# EAGLE library part ZX62R-B-5P (library USBMicro)
Conn Micro USB 2.0 Type B RCP 5 POS 0.65mm Solder RA SMD 5 Terminal 1 Port Embossed T/R Check prices <https://pricing.snapeda.com/parts/ZX62R-B-5P/Hirose/view-part?ref=eda>
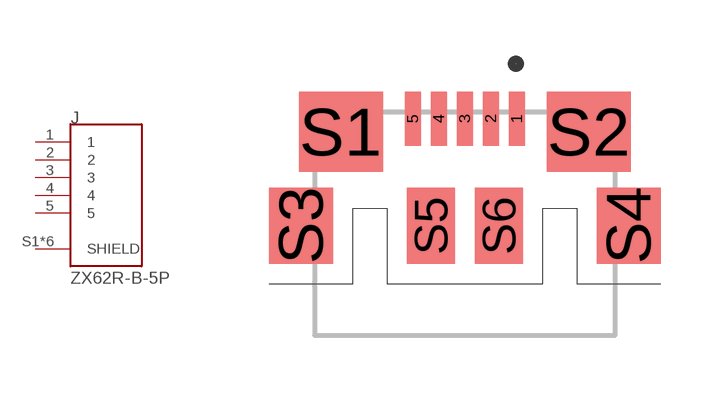
[diagram p0: symbol with the pads of HRS_ZX62R-B-5P; footprint HRS_ZX62R-B-5P]

Designator prefix J

## ZX62R-B-5P (Availability: In Stock; Description: USB - micro B USB 2.0 Receptacle Connector 5 Position Surface Mount, Right Angle; MF: Hirose; MP: ZX62R-B-5P; Package: None; Price: None)  [HRS_ZX62R-B-5P]
1  1  pas
2  2  pas
3  3  pas
4  4  pas
5  5  pas
S1  SHIELD  pas
S2  SHIELD  pas
S3  SHIELD  pas
S4  SHIELD  pas
S5  SHIELD  pas
S6  SHIELD  pas

## Footprint HRS_ZX62R-B-5P (pad centres in mm)
smd 0.4 x 1.35: 1 1.3,2.675; 2 0.65,2.675; 3 0,2.675; 4 -0.65,2.675; 5 -1.3,2.675
smd 2.1 x 2: S1 -3.1,2.35; S2 3.1,2.35
smd 1.6 x 1.9: S3 -4.1,0; S4 4.1,0
smd 1.2 x 1.9: S5 -0.85,0; S6 0.85,0